# Altium footprint library trafo-siemens.PCBLIB: 39 footprints (part 3 of 3)
Each footprint in its own frame and in the unit in brackets; x right, y up, seen from the top. Pads: shape width x height; smd on the part's side, far side on the other; paste and mask are expansions set on the pad; w line width, h text height; cw(c..) or ccw(c..) is an arc to the next point about the centre after c.
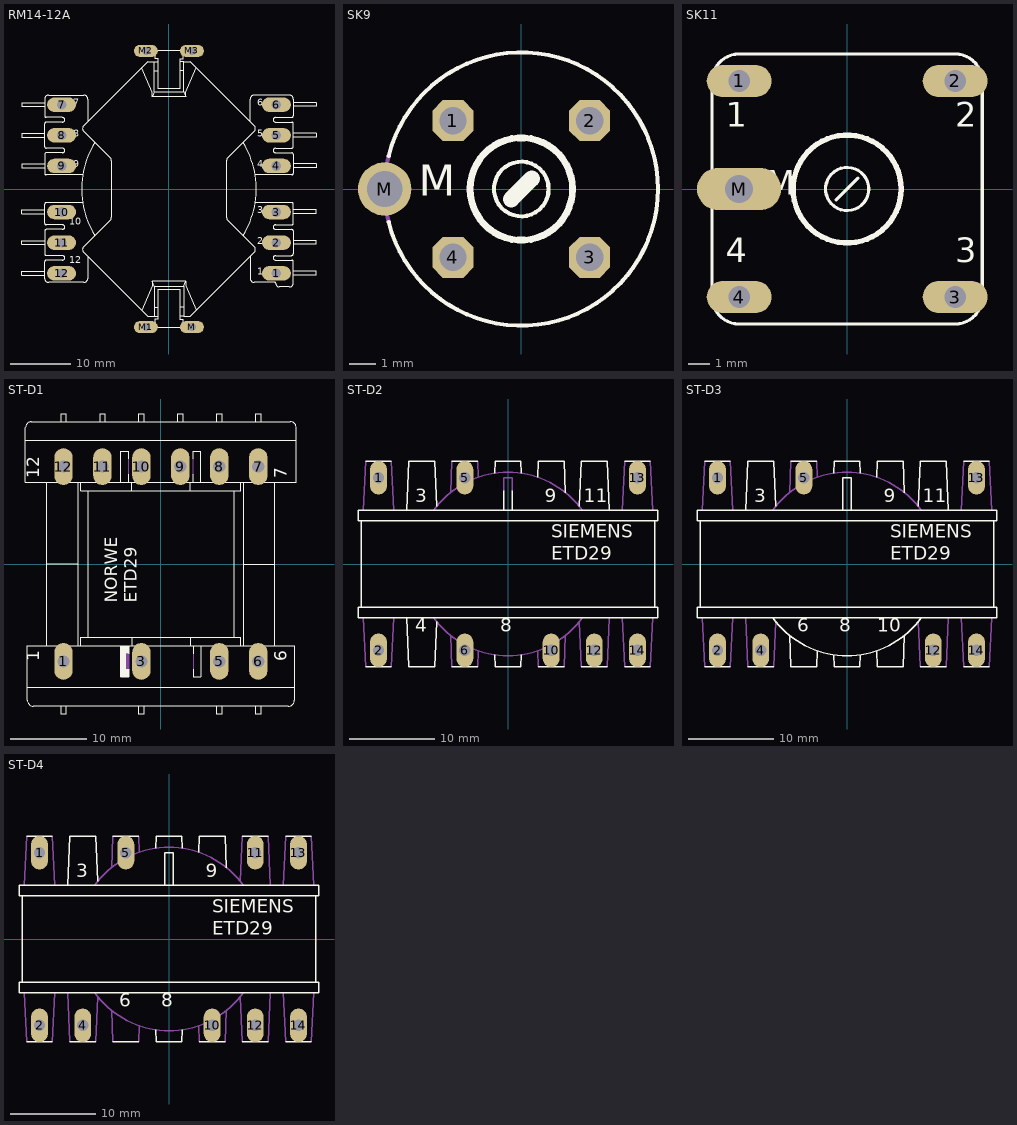
[diagram p2: the footprints below, top view; thin cyan lines are the x and y axes]

## RM14-12A [mil]
pads (16):
  oval 189x94.5 hole 63: 1(700,-550) 2(700,-350) 3(700,-150) 4(700,150) 5(700,350) 6(700,550) 7(-700,550) 8(-700,350) 9(-700,150) 10(-700,-150) 11(-700,-350) 12(-700,-550)
  oval 156x78 hole 52: M(150,-900) M1(-150,-900) M2(-150,900) M3(150,900)
Top Overlay:
  drawing of 211 lines, arcs and shapes, not listed
  text "1" at 575,-575 h77.5
  text "2" at 575,-375 h77.5
  text "3" at 575,-175 h77.5
  text "4" at 575,125 h77.5
  text "5" at 575,325 h77.5
  text "6" at 575,525 h77.5
  text "7" at -625,525 h77.5
  text "8" at -625,325 h77.5
  text "9" at -625,125 h77.5
  text "10" at -650,-250 h77.5
  text "12" at -650,-500 h77.5
Mechanical 16:
  lines w6: -90,-900 -170,-900 -170,-880 -90,-880 ; -90,885 -170,885 -170,900 -90,900 ; 90,-900 170,-900 170,-885 90,-885 ; 90,880 170,880 170,900 90,900

## SK9 [mil]
pads (5):
  oct 60x60 hole 40: 1(-100,100) 2(100,100) 3(100,-100) 4(-100,-100)
  round 78 hole 52: M(-200,0)
Top Overlay:
  circle w10: c0,0 r75
  circle w6: c0,0 r40
  lines w6: -194.03,-48.51 ccw(c0,0) 200,0 ccw(c0,0) -194.03,48.51
  lines w24: -15,-15 15,15
  text "M" at -150,-25 h77.5
Mechanical 16:
  lines w6: -192.3,-54.94 cw(c-0.02,0.02) -200,0 cw(c-0.02,-0.02) -192.3,54.94
  text "2" at 100,75 h77.5
  text "3" at 100,-125 h77.5
  text "4" at -125,-125 h77.5
  text "1" at -150,75 h77.5

## SK11 [mil]
pads (5):
  oval 120x60 hole 40: 1(-200,200) 2(200,200) 3(200,-200) 4(-200,-200)
  oval 156x78 hole 52: M(-200,0)
Top Overlay:
  circle w6: c0,0 r40
  circle w10: c0,0 r100
  lines w6: -20,-20 20,20 ; -250,-200 -250,200 cw(c-200,200) -200,250 200,250 cw(c200,200) 250,200 250,-200 cw(c200,-200) 200,-250 -200,-250 cw(c-200,-200) -250,-200
  text "1" at -225,100 h77.5
  text "4" at -225,-150 h77.5
  text "3" at 200,-150 h77.5
  text "2" at 200,100 h77.5
  text "M" at -150,-25 h77.5

## ST-D1 [mil]
pads (10):
  oval 94.5x189 hole 63: 1(-500,-500) 3(-100,-500) 5(300,-500) 6(500,-500) 7(500,500) 8(300,500) 9(100,500) 10(-100,500) 11(-300,500) 12(-500,500)
Top Overlay:
  rectangle: -205,-580 -165,-540
  rectangle: -205,-540 -180,-460
  rectangle: -205,-460 -165,-420
  lines w6: -585,0 -425,0 ; -165,-540 -165,-580 -205,-580 -205,-420 ; -165,-460 -165,-420 ; -165,460 -165,420 ; -165,540 -165,580 -205,580 -205,420 ; 165,-540 165,-580 205,-580 205,-420 ; 165,-460 165,-420 ; 165,460 165,420 ; 165,540 165,580 205,580 205,420 ; 425,0 585,0 ; -695,635 -695,420 -585,420 ; -695,635 -695,700 cw(c-665,700) -665,730 -515,730 ; -695,635 695,635 ; -685,-635 -685,-700 ccw(c-655,-700) -655,-730 -515,-730 ; -685,-635 -685,-420 -585,-420 ; -685,-635 685,-635 ; -585,-420 -425,-420 ; -585,-420 -585,420 ; -585,420 -425,420 ; -515,-730 -485,-730 ; -515,-730 -515,-770 -485,-770 -485,-730 ; -515,730 -485,730 ; -515,730 -515,770 -485,770 -485,730 ; -485,-730 -115,-730 ; -485,730 -315,730 ; -425,-420 -410,-420 ; -425,-420 -425,420 ; -425,420 -410,420 ; -410,-420 -205,-420 ; -410,-420 -410,-375 -375,-375 ; -410,420 -205,420 ; -410,420 -410,375 -375,375 ; -375,-375 -375,375 ; -375,-375 -150,-375 ; -375,375 -150,375 ; -315,730 -285,730 ; -315,730 -315,770 -285,770 -285,730 ; -285,730 -115,730 ; -205,-420 -165,-420 ; -205,420 -165,420 ; -165,-420 -150,-420 ; -165,420 -150,420 ; -150,-420 150,-420 ; -150,-420 -150,-375 ; -150,-375 150,-375 ; -150,375 -150,420 ; -150,375 150,375 ; -150,420 150,420 ; -115,-730 -85,-730 ; -115,-730 -115,-770 -85,-770 -85,-730 ; -115,730 -85,730 ; -115,730 -115,770 -85,770 -85,730 ; -85,-730 285,-730 ; -85,730 85,730 ; 85,730 115,730 ; 85,730 85,770 115,770 115,730 ; 115,730 285,730 ; 150,-420 165,-420 ; 150,-420 150,-375 ; 150,-375 375,-375 ; 150,375 375,375 ; 150,375 150,420 ; 150,420 165,420 ; 165,-420 205,-420 ; 165,420 205,420 ; 205,-420 410,-420 ; 205,420 410,420 ; 285,-730 315,-730 ; 285,-730 285,-770 315,-770 315,-730 ; 285,730 315,730 ; 285,730 285,770 315,770 315,730 ; 315,-730 485,-730 ; 315,730 485,730 ; 375,-375 410,-375 410,-420 ; 375,-375 375,375 ; 375,375 410,375 410,420 ; 410,-420 425,-420 ; 410,420 425,420 ; 425,-420 585,-420 ; 425,-420 425,420 ; 425,420 585,420 ; 485,-730 515,-730 ; 485,-730 485,-770 515,-770 515,-730 ; 485,730 515,730 ; 485,730 485,770 515,770 515,730 ; 515,-730 655,-730 ccw(c655,-700) 685,-700 685,-635 ; 515,730 665,730 cw(c665,700) 695,700 695,635 ; 585,-420 685,-420 685,-635 ; 585,-420 585,420 ; 585,420 695,420 695,635
  text "1" at -600,-500 h108.5
  text "6" at 670,-500 h108.5
  text "7" at 670,440 h108.5
  text "12" at -600,440 h108.5
  text "NORWE" at -200,-200 h108.5
  text "ETD29" at -100,-200 h108.5
Mechanical 16:
  rectangle: -180,-540 -165,-460
  lines w6: -165,-540 -165,-460 ; -165,460 -165,540 ; 165,-540 165,-460 ; 165,460 165,540

## ST-D2 [mil]
pads (8):
  oval 78x156 hole 52: 1(-600,400) 2(-600,-400) 5(-200,400) 6(-200,-400) 10(200,-400) 12(400,-400) 13(600,400) 14(600,-400)
Top Overlay:
  lines w6: -660,-475 -540,-475 ; -660,475 -540,475 ; -331,-267 -340,-475 -460,-475 -470,-250 ; -331,267 -340,475 -460,475 -470,250 ; -260,-475 -140,-475 ; -260,475 -140,475 ; -62,-420 -60,-475 60,-475 62,-420 ; -62,420 -60,475 60,475 62,420 ; -20,340 -20,250 ; 20,340 20,250 ; 137,402 140,475 260,475 266,331 ; 140,-475 260,-475 ; 331,267 340,475 460,475 470,250 ; 340,-475 460,-475 ; 540,-475 660,-475 ; 540,475 660,475 ; -680,-200 -680,200 ; -680,-200 -695,-200 -695,-250 -470,-250 ; -680,-200 680,-200 ; -680,200 -695,200 -695,250 -470,250 ; -680,200 680,200 ; -470,-250 695,-250 695,-200 680,-200 ; -470,250 -20,250 ; -20,250 20,250 ; 20,250 470,250 ; 470,250 695,250 695,200 680,200 ; 680,-200 680,200
  text "3" at -430,265 h108.5
  text "4" at -430,-335 h108.5
  text "8" at -35,-335 h108.5
  text "9" at 170,265 h108.5
  text "11" at 350,265 h108.5
  text "SIEMENS" at 200,100 h108.5
  text "ETD29" at 200,0 h108.5
Mechanical 16:
  lines w6: -670,-250 -660,-475 ; -670,250 -660,475 ; -540,-475 -530,-250 ; -540,475 -530,250 ; -344,-250 ccw(c0,0) 344,-250 ; -344,250 cw(c0,0) 344,250 ; -266,-331 -260,-475 ; -266,331 -260,475 ; -140,-475 -137,-402 ; -140,475 -137,402 ; -20,340 -20,400 20,400 20,340 ; 137,-402 140,-475 ; 260,-475 266,-331 ; 331,-267 340,-475 ; 460,-475 470,-250 ; 530,-250 540,-475 ; 530,250 540,475 ; 660,-475 670,-250 ; 660,475 670,250
  text "1" at -630,265 h108.5
  text "2" at -635,-335 h108.5
  text "5" at -230,265 h108.5
  text "6" at -230,-335 h108.5
  text "10" at 140,-335 h108.5
  text "12" at 345,-330 h108.5
  text "14" at 540,-335 h108.5
  text "13" at 540,265 h108.5

## ST-D3 [mil]
pads (7):
  oval 78x156 hole 52: 1(-600,400) 2(-600,-400) 4(-400,-400) 5(-200,400) 12(400,-400) 13(600,400) 14(600,-400)
Top Overlay:
  lines w6: -660,-475 -540,-475 ; -660,475 -540,475 ; -460,-475 -340,-475 ; -344,-250 ccw(c0,0) 344,-250 ; -331,267 -340,475 -460,475 -470,250 ; -266,-331 -260,-475 -140,-475 -137,-402 ; -260,475 -140,475 ; -62,-420 -60,-475 60,-475 62,-420 ; -62,420 -60,475 60,475 62,420 ; 137,-402 140,-475 260,-475 266,-331 ; 137,402 140,475 260,475 266,331 ; 331,267 340,475 460,475 470,250 ; 340,-475 460,-475 ; 540,-475 660,-475 ; 540,475 660,475 ; -680,-200 -680,200 ; -680,-200 -695,-200 -695,-250 695,-250 695,-200 680,-200 ; -680,-200 680,-200 ; -680,200 -695,200 -695,250 -470,250 ; -680,200 680,200 ; -470,250 -20,250 ; -20,250 20,250 ; -20,250 -20,400 20,400 20,250 ; 20,250 470,250 ; 470,250 695,250 695,200 680,200 ; 680,-200 680,200
  text "3" at -430,265 h108.5
  text "6" at -230,-335 h108.5
  text "8" at -35,-335 h108.5
  text "10" at 140,-335 h108.5
  text "9" at 170,265 h108.5
  text "11" at 350,265 h108.5
  text "SIEMENS" at 200,100 h108.5
  text "ETD29" at 200,0 h108.5
Mechanical 16:
  lines w6: -670,-250 -660,-475 ; -670,250 -660,475 ; -540,-475 -530,-250 ; -540,475 -530,250 ; -470,-250 -460,-475 ; -344,250 cw(c0,0) 344,250 ; -340,-475 -331,-267 ; -266,331 -260,475 ; -140,475 -137,402 ; 331,-267 340,-475 ; 460,-475 470,-250 ; 530,-250 540,-475 ; 530,250 540,475 ; 660,-475 670,-250 ; 660,475 670,250
  text "1" at -630,265 h108.5
  text "2" at -635,-335 h108.5
  text "4" at -430,-335 h108.5
  text "5" at -230,265 h108.5
  text "12" at 345,-330 h108.5
  text "14" at 540,-335 h108.5
  text "13" at 540,265 h108.5

## ST-D4 [mil]
pads (9):
  oval 78x156 hole 52: 1(-600,400) 2(-600,-400) 4(-400,-400) 5(-200,400) 10(200,-400) 11(400,400) 12(400,-400) 13(600,400) 14(600,-400)
Top Overlay:
  lines w6: -660,-475 -540,-475 ; -660,475 -540,475 ; -460,-475 -340,-475 ; -331,267 -340,475 -460,475 -470,250 ; -260,-475 -140,-475 ; -260,475 -140,475 ; -62,-420 -60,-475 60,-475 62,-420 ; -62,420 -60,475 60,475 62,420 ; 137,402 140,475 260,475 266,331 ; 140,-475 260,-475 ; 340,-475 460,-475 ; 340,475 460,475 ; 540,-475 660,-475 ; 540,475 660,475 ; -680,-200 -680,200 ; -680,-200 -695,-200 -695,-250 695,-250 695,-200 680,-200 ; -680,-200 680,-200 ; -680,200 -695,200 -695,250 -470,250 ; -680,200 680,200 ; -470,250 -20,250 ; -20,250 20,250 ; -20,250 -20,400 20,400 20,250 ; 20,250 695,250 695,200 680,200 ; 680,-200 680,200
  text "3" at -430,265 h108.5
  text "6" at -230,-335 h108.5
  text "8" at -35,-335 h108.5
  text "9" at 170,265 h108.5
  text "SIEMENS" at 200,100 h108.5
  text "ETD29" at 200,0 h108.5
Mechanical 16:
  lines w6: -670,-250 -660,-475 ; -670,250 -660,475 ; -540,-475 -530,-250 ; -540,475 -530,250 ; -470,-250 -460,-475 ; -344,-250 ccw(c0,0) 344,-250 ; -344,250 cw(c0,0) 344,250 ; -340,-475 -331,-267 ; -266,-331 -260,-475 ; -266,331 -260,475 ; -140,-475 -137,-402 ; -140,475 -137,402 ; 137,-402 140,-475 ; 260,-475 266,-331 ; 331,-267 340,-475 ; 331,267 340,475 ; 460,-475 470,-250 ; 460,475 470,250 ; 530,-250 540,-475 ; 530,250 540,475 ; 660,-475 670,-250 ; 660,475 670,250
  text "1" at -630,265 h108.5
  text "2" at -635,-335 h108.5
  text "4" at -430,-335 h108.5
  text "5" at -230,265 h108.5
  text "10" at 140,-335 h108.5
  text "12" at 345,-330 h108.5
  text "14" at 540,-335 h108.5
  text "11" at 350,265 h108.5
  text "13" at 540,265 h108.5